# Altium schematic symbol library LTC3200-5.SchLib: 1 symbol
Pins are listed as number, name and electrical type; pins without a type are passive.

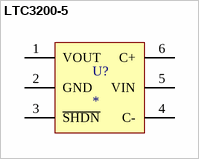
[diagram p0: symbol LTC3200-5]

## LTC3200-5
designator U?
LTC3200-5 Low Noise, Regulated Charge Pump DC/DC Converters; Part No.: LTC3200ES6-5; Manufacturer: Linear Technology; Vendor: Linear Technology; Price Est.: $2.00
footprint SOT23-6 (SOT-457/SC-74; 6 Leads; Body 3 x 3 mm, inc. leads (LxW max))
pins: 1 VOUT, 2 GND, 3 ~{SHDN}, 4 C-, 5 VIN, 6 C+